# Altium footprint library VQFN-RHL.PcbLib: 1 footprints
Each footprint in its own frame and in the unit in brackets; x right, y up, seen from the top. Pads: shape width x height; smd on the part's side, far side on the other; paste and mask are expansions set on the pad; w line width, h text height; cw(c..) or ccw(c..) is an arc to the next point about the centre after c.
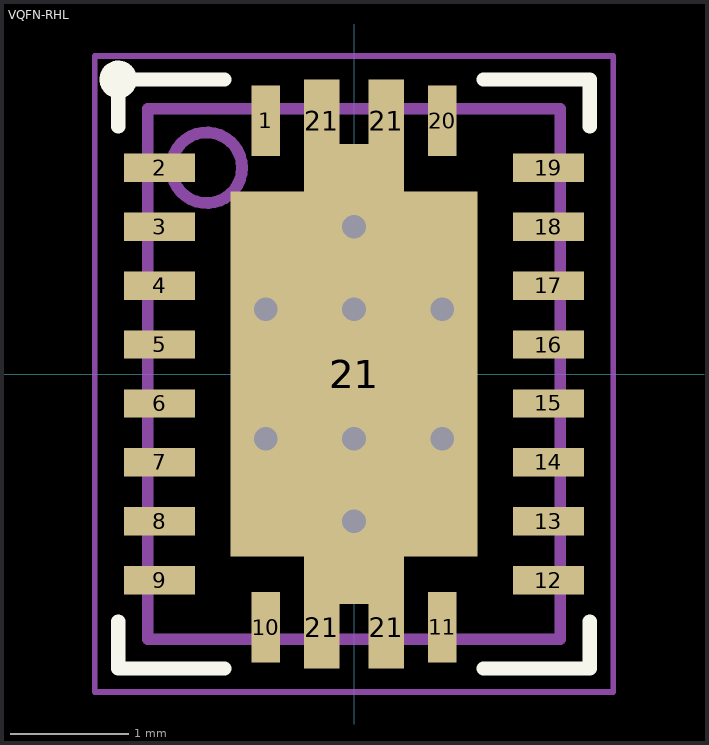
[diagram p0: the footprint, top view; thin cyan lines are the x and y axes]

## VQFN-RHL [mm]
pads (26):
  rect 0.24x0.6 smd mask+0.05: 1(-0.75,2.15) 10(-0.75,-2.15) 11(0.75,-2.15) 20(0.75,2.15)
  rect 0.6x0.24 smd mask+0.05: 2(-1.65,1.75) 3(-1.65,1.25) 4(-1.65,0.75) 5(-1.65,0.25) 6(-1.65,-0.25) 7(-1.65,-0.75) 8(-1.65,-1.25) 9(-1.65,-1.75) 12(1.65,-1.75) 13(1.65,-1.25) 14(1.65,-0.75) 15(1.65,-0.25) 16(1.65,0.25) 17(1.65,0.75) 18(1.65,1.25) 19(1.65,1.75)
  rect 0.3x0.7 smd paste-0.05 mask-0.05: 21(-0.275,-2.15) 21(-0.275,2.15) 21(0.275,-2.15) 21(0.275,2.15)
  rect 0.85x3.9 smd paste-10 mask-0.05: 21(0,0)
  rect 2.1x3.1 smd paste-10 mask-0.05: 21(0,0)
via -0.75,0.55 diameter 0.4 hole 0.2
via -0.75,-0.55 diameter 0.4 hole 0.2
via 0.75,-0.55 diameter 0.4 hole 0.2
via 0.75,0.55 diameter 0.4 hole 0.2
via 0,1.25 diameter 0.4 hole 0.2
via 0,-1.25 diameter 0.4 hole 0.2
via 0,-0.55 diameter 0.4 hole 0.2
via 0,0.55 diameter 0.4 hole 0.2
Top Overlay:
  circle w0.12: c-2,2.5 r0.1
  lines w0.12: -2,-2.1 -2,-2.5 -1.1,-2.5 ; -2,2.1 -2,2.5 -1.1,2.5 ; 1.1,-2.5 2,-2.5 2,-2.1 ; 1.1,2.5 2,2.5 2,2.1
Top Paste:
  rectangle: -0.375,-1.9 0.375,-1.7
  rectangle: -0.375,1.7 0.375,1.9
  rectangle: -1,-1.5 -0.08,-0.65
  region: 1,-0.65 0.08,-0.65 0.08,-1.5 1,-1.5
  region: 1,1.5 0.08,1.5 0.08,0.65 1,0.65
  rectangle: -1,0.65 -0.08,1.5
  rectangle: -1,-0.425 -0.08,0.425
  region: 1,0.425 0.08,0.425 0.08,-0.425 1,-0.425
Top Assembly:
  circle w0.1: c-1.25,1.75 r0.3
  lines w0.1: -1.75,-2.25 1.75,-2.25 1.75,2.25 -1.75,2.25 -1.75,-2.25
  text "'.Designator'" at -0.25,0.25 h0.5
Top Component Outline:
  lines w0.05: -2.2,-2.7 2.2,-2.7 2.2,2.7 -2.2,2.7 -2.2,-2.7
  lines w0.1: -0.5,0 0.5,0 ; 0,-0.5 0,0.5
3D body: height 0.75, standoff 0, extent -1.75,-2.25 1.75,2.25